# Altium footprint library TCRT5000.PcbLib: 2 footprints
Each footprint in its own frame and in the unit in brackets; x right, y up, seen from the top. Pads: shape width x height; smd on the part's side, far side on the other; paste and mask are expansions set on the pad; w line width, h text height; cw(c..) or ccw(c..) is an arc to the next point about the centre after c.
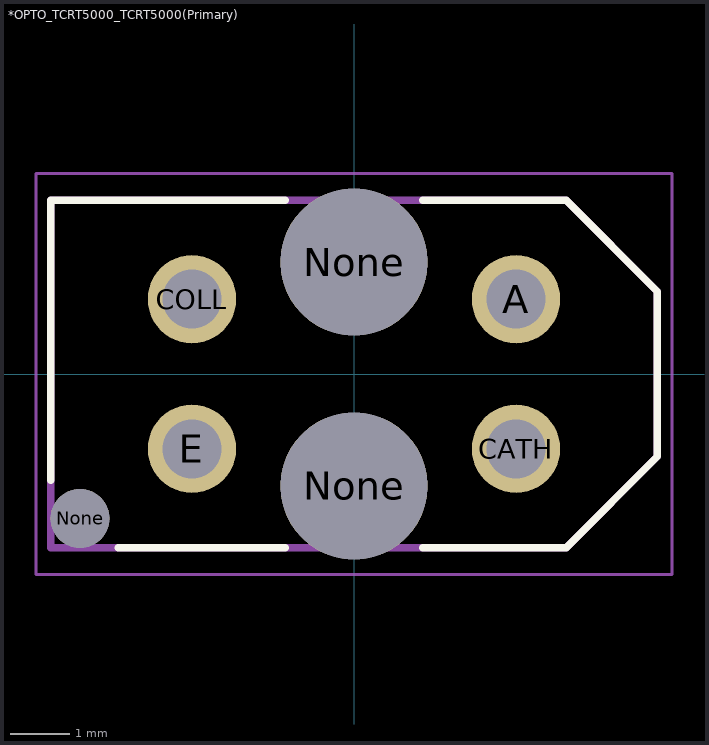
[diagram p0: the footprints below, top view; thin cyan lines are the x and y axes]

## *OPTO_TCRT5000_TCRT5000(Primary) [mm]
pads (7):
  round 1.5 hole 1: A(2.75,1.27) CATH(2.75,-1.27) COLL(-2.75,1.27) E(-2.75,-1.27)
  round 1 hole 1 unplated: None(-4.65,-2.45)
  round 2.5 hole 2.5 unplated: None(0,-1.9) None(0,1.9)
Top Overlay:
  lines w0.127: -5.15,-1.8 -5.15,2.95 -1.17,2.95 ; -4,-2.95 -1.17,-2.95 ; 1.17,-2.95 3.6,-2.95 5.15,-1.4 5.15,1.4 3.6,2.95 1.17,2.95
Mechanical 4:
  lines w0.127: -5.15,-2.95 3.6,-2.95 ; -5.15,-2.95 -5.15,2.95 ; -5.15,-2.95 3.6,-2.95 ; -5.15,-2.95 -5.15,2.95 ; -5.15,2.95 3.6,2.95 ; -5.15,2.95 3.6,2.95 ; 3.6,-2.95 5.15,-1.4 ; 3.6,-2.95 5.15,-1.4 ; 3.6,2.95 5.15,1.4 ; 3.6,2.95 5.15,1.4 ; 5.15,-1.4 5.15,1.4 ; 5.15,-1.4 5.15,1.4
Mechanical 16:
  lines w0.05: -5.4,-3.4 5.4,-3.4 5.4,3.4 -5.4,3.4 -5.4,-3.4

## PCBComponent_1 [mm]